# Altium schematic symbol library Sensors.SchLib: 7 symbols
Pins are listed as number, name and electrical type; pins without a type are passive.

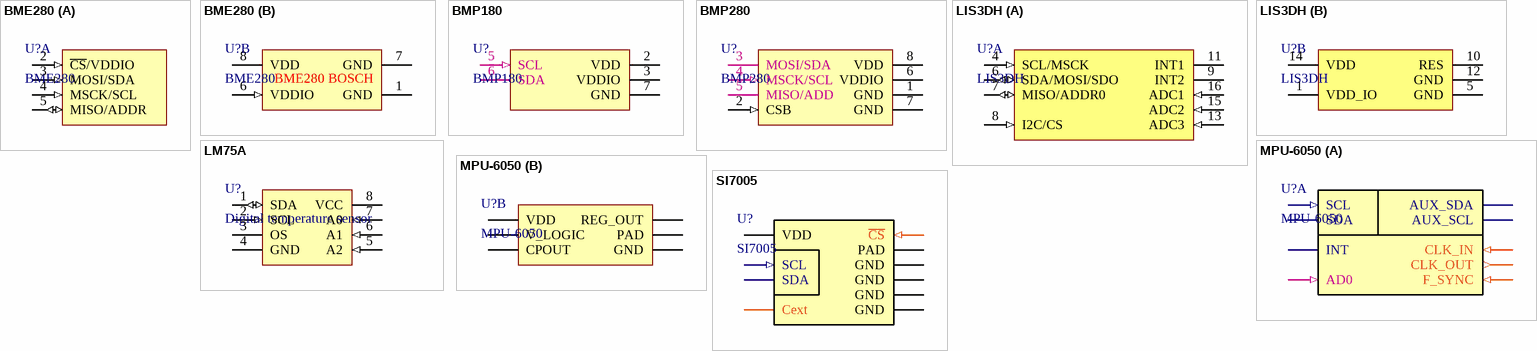
[diagram p0: symbols BME280 to SI7005]

## BME280
designator U?
DIGITAL HUMIDITY, PRESSURE AND TEMPERATURE SENSOR; Digital interface: I²C (up to 3.4 MHz) and SPI (3 and 4 wire, up to 10 MHz); Supply voltage: 1.71 ~ 3.6 V
footprint BME280 (PSON, 8-Leads, Body 2,50x2,50mm, Pitch 0,65mm, IPC Medium Density)
part A pins: 2 ~{CS}/VDDIO (in), 3 MOSI/SDA (in), 4 MSCK/SCL (in), 5 MISO/ADDR (io)
part B pins: 1 GND (power), 6 VDDIO (in), 7 GND (power), 8 VDD (power)
part B text: BME280 BOSCH

## BMP180
designator U?
Bosch I2c pressure sensor
footprint LGA 7 pin
pins: 2 VDD (power), 3 VDDIO (power), 5 SCL (in), 6 SDA (oc), 7 GND (power)

## BMP280
designator U?
Bosch I2c pressure sensor
footprint LGA 8 2.0 x 2.5 x 0.95 (LGA, 8-Leads, Body 2,50x2,00mmx0,95mm, Pitch 0,65mm)
pins: 1 GND (power), 2 CSB (in), 3 MOSI/SDA (oc), 4 MSCK/SCL (in), 5 MISO/ADD, 6 VDDIO (power), 7 GND (power), 8 VDD (power)

## LIS3DH
designator U?
3D accelerometer; Min VCC: 1.71V; Typ VCC: 3.3V; Max VCC: 3.6V; I2c address: 0x30
footprint LGA 16 (QFN, 16-Leads, Body 3,00x3,00mm, Pitch 0,50mm, IPC Medium Density)
part A pins: 4 SCL/MSCK (in), 6 SDA/MOSI/SDO (io), 7 MISO/ADDR0 (io), 8 I2C/CS (in), 9 INT2 (oc), 11 INT1 (oc), 13 ADC3 (in), 15 ADC2 (in), 16 ADC1 (in)
part B pins: 1 VDD_IO (power), 5 GND (power), 10 RES, 12 GND (power), 14 VDD (power)

## LM75A
designator U?, comment Digital temperature sensor
The LM75A is a temperature-to-digital converter using an on-chip band gap temperature / sensor and Sigma-delta A-to-D conversion technique.
footprint SO8 (SOIC, 8-Leads, Body 4,90x4,00mm, Pitch 1,27mm, IPC Medium Density)
pins: 1 SDA (io), 2 SCL (in), 3 OS (oc), 4 GND (power), 5 A2 (in), 6 A1 (in), 7 A0 (in), 8 VCC (power)

## MPU-6050
designator U?
Integrated 6-axis 3D accelerometer I2c interface
footprint QFN24 (QFN, 24-Leads, Body 4,00x4,00mm, Pitch 0,50mm, Thermal Pad 2,60x2,70mm, IPC Medium Density)
part A pins: 1 CLK_IN (in) "EXT CLOCK IN", 6 AUX_SDA (oc) "AUX DATA", 7 AUX_SCL (oc) "AUX CLOCK", 9 AD0 (in) "I2C ADDRESS", 11 F_SYNC (in) "SYNC", 12 INT (oc) "Interrupt out", 22 CLK_OUT (out) "CLOCK OUT", 23 SCL (in) "I2C CLOCK", 24 SDA (oc) "I2C DATA"
part B pins: 8 V_LOGIC (power) "LOGIC VOLTAGE", 10 REG_OUT (power) "100N CAPACITOR", 13 VDD (power) "POWER SUPPLY", 18 GND (power) "POWER SUPPLY", 20 CPOUT (power) "24V REG", 25 PAD (power) "THERMAL PAD"

## SI7005
designator U?
I2c humidity and themperature sensor
footprint QFN24 (QFN, 24-Leads, Body 4,00x4,00mm, Pitch 0,50mm, Thermal Pad 2,60x2,70mm, IPC Medium Density)
pins: 1 GND (power) "Power ground", 3 SCL (in) "I2c clock input", 4 SDA (oc) "I2c data input/output", 8 GND (power) "Power ground", 9 VDD (power) "Power supply", 10 Cext (power) "External capacitor 4u7", 11 GND (power) "Power ground", 15 ~{CS} (in) "Chip select", 19 GND (power) "Power ground", 25 PAD (power) "Power ground"